# Altium footprint library PQFN50P450X300X100-16N.PcbLib: 1 footprints
Each footprint in its own frame and in the unit in brackets; x right, y up, seen from the top. Pads: shape width x height; smd on the part's side, far side on the other; paste and mask are expansions set on the pad; w line width, h text height; cw(c..) or ccw(c..) is an arc to the next point about the centre after c.
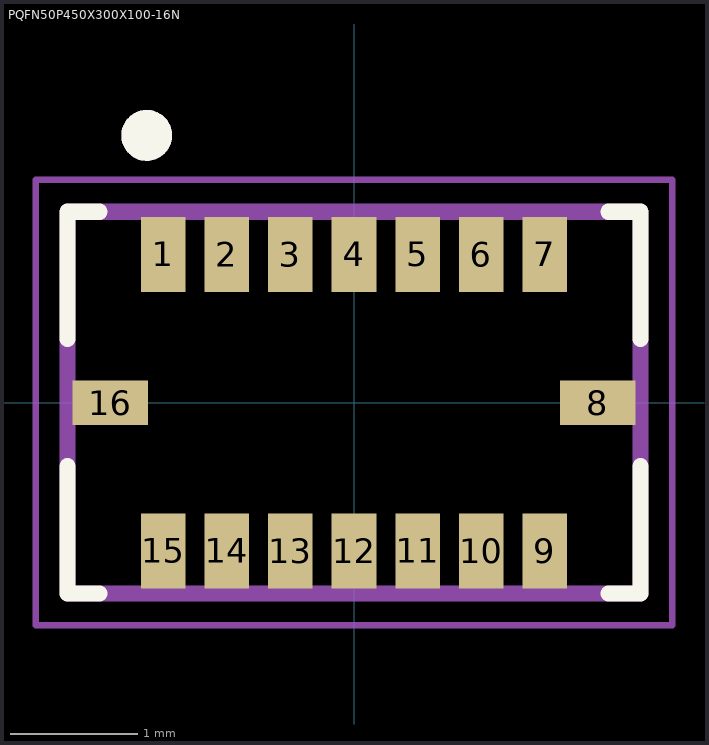
[diagram p0: the footprint, top view; thin cyan lines are the x and y axes]

## PQFN50P450X300X100-16N [mm]
pads (16):
  rect 0.35x0.59 smd: 1(-1.5,1.165) 2(-1,1.165) 3(-0.5,1.165) 4(0,1.165) 5(0.5,1.165) 6(1,1.165) 7(1.5,1.165) 9(1.5,-1.165) 10(1,-1.165) 11(0.5,-1.165) 12(0,-1.165) 13(-0.5,-1.165) 14(-1,-1.165) 15(-1.5,-1.165)
  rect 0.59x0.35 smd: 8(1.915,0) 16(-1.915,0)
Top Overlay:
  circle w0.2: c-1.629,2.1 r0.1
  lines w0.127: -2.25,-0.5 -2.25,-1.5 -2,-1.5 ; -2.25,0.5 -2.25,1.5 -2,1.5 ; 2,-1.5 2.25,-1.5 2.25,-0.5 ; 2,1.5 2.25,1.5 2.25,0.5
Mechanical 13:
  circle w0.2: c-1.629,2.1 r0.1
  lines w0.127: -2.25,-1.5 2.25,-1.5 2.25,1.5 -2.25,1.5 -2.25,-1.5
Mechanical 15:
  lines w0.05: -2.5,-1.75 2.5,-1.75 2.5,1.75 -2.5,1.75 -2.5,-1.75